# Altium footprint library PcbLib MP V1.PcbLib: 22 footprints (part 1 of 2)
Each footprint in its own frame and in the unit in brackets; x right, y up, seen from the top. Pads: shape width x height; smd on the part's side, far side on the other; paste and mask are expansions set on the pad; w line width, h text height; cw(c..) or ccw(c..) is an arc to the next point about the centre after c.
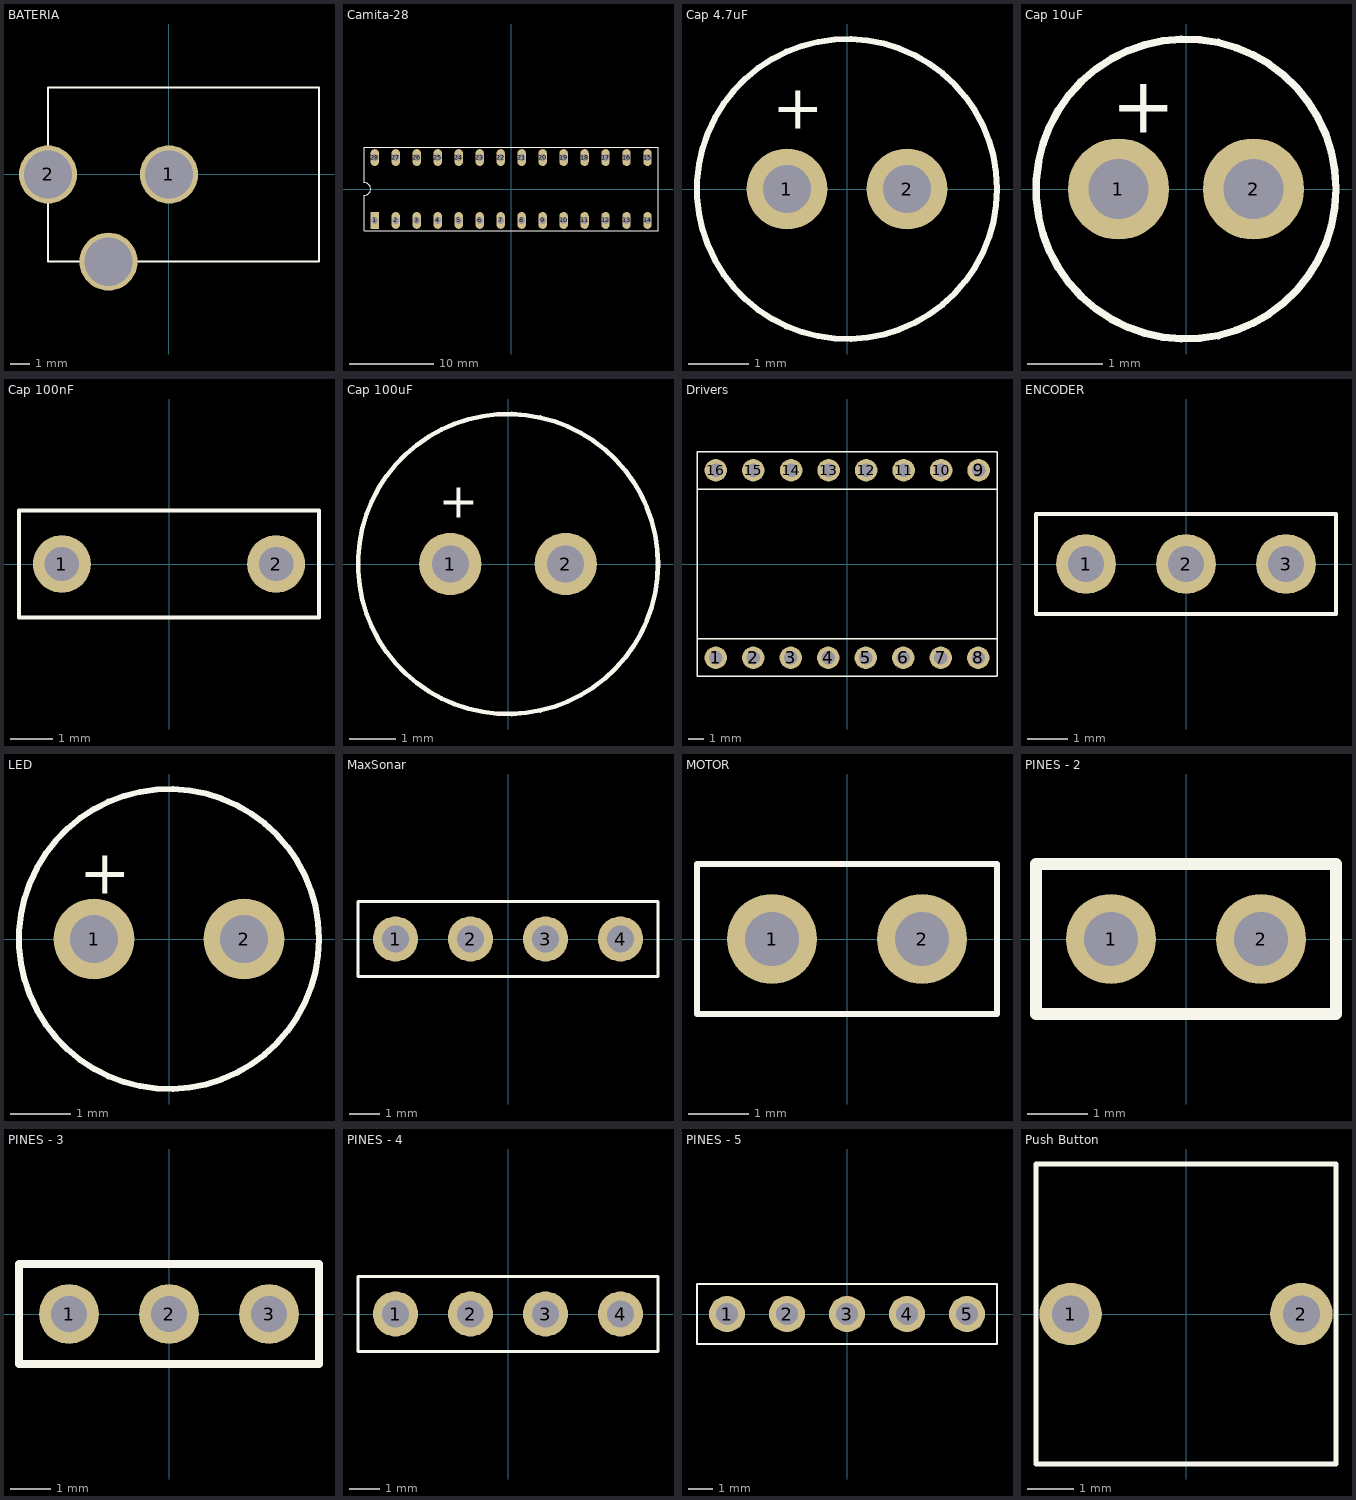
[diagram p0: the footprints below, top view; thin cyan lines are the x and y axes]

## BATERIA [mm]
pads (3):
  round 3 hole 2.5: 1(0,0) 2(-6.25,0) ""(-3.125,-4.5)
Top Overlay:
  lines w0.1: -6.25,-4.5 7.75,-4.5 7.75,4.5 -6.25,4.5 -6.25,-4.5
3D body: height 11, standoff 0, extent -6.377,-4.627 7.877,4.627

## Camita-28 [mm]
pads (28):
  rect 1x2 hole 0.8: 1(-16.25,-3.75)
  oval 1x2 hole 0.8: 2(-13.75,-3.75) 3(-11.25,-3.75) 4(-8.75,-3.75) 5(-6.25,-3.75) 6(-3.75,-3.75) 7(-1.25,-3.75) 8(1.25,-3.75) 9(3.75,-3.75) 10(6.25,-3.75) 11(8.75,-3.75) 12(11.25,-3.75) 13(13.75,-3.75) 14(16.25,-3.75) 15(16.25,3.75) 16(13.75,3.75) 17(11.25,3.75) 18(8.75,3.75) 19(6.25,3.75) 20(3.75,3.75) 21(1.25,3.75) 22(-1.25,3.75) 23(-3.75,3.75) 24(-6.25,3.75) 25(-8.75,3.75) 26(-11.25,3.75) 27(-13.75,3.75) 28(-16.25,3.75)
Top Overlay:
  lines w0.1: -17.5,-5 -17.5,-0.75 ccw(c-17.5,0) -17.5,0.75 -17.5,5 17.5,5 17.5,-5 -17.5,-5
3D body: height 5.5, standoff 0.25, extent -17.5,-5.001 17.501,5.001

## Cap 4.7uF [mm] "Capacitor Electrolítico 4.7uF - 50v"
pads (2):
  round 1.35 hole 0.8: 1(-1,0) 2(1,0)
Top Overlay:
  circle w0.1: c0,0 r2.5
  text "+" at -1.25,1 h0.75
3D body: height 12, standoff 0, extent -2.494,-2.498 2.5,2.499

## Cap 10uF [mm] "Capacitor Electrolítico 10uF - 25v"
pads (2):
  round 1.35 hole 0.8: 1(-0.9,0) 2(0.9,0)
Top Overlay:
  circle w0.1: c0,0 r2
  text "+" at -1,0.75 h0.75
3D body: height 8, standoff 0, extent -1.996,-1.999 2,1.999

## Cap 100nF [mm] "Capacitor Cerámico 100nF"
pads (2):
  round 1.35 hole 0.8: 1(-2.5,0) 2(2.5,0)
Top Overlay:
  lines w0.1: -3.5,-1.25 3.5,-1.25 3.5,1.25 -3.5,1.25 -3.5,-1.25
3D body: height 4.6, standoff 1.38, extent -2,-1.25 2,1.25

## Cap 100uF [mm] "Capacitor Electrolítico 100uF - 25v"
pads (2):
  round 1.35 hole 0.8: 1(-1.25,0) 2(1.25,0)
Top Overlay:
  circle w0.1: c0,0 r3.25
  text "+" at -1.5,1 h0.75
3D body: height 8, standoff 0, extent -3.246,-3.249 3.25,3.249

## Drivers [mm]
pads (16):
  round 1.5 hole 0.9: 1(-8.75,-6.25) 2(-6.25,-6.25) 3(-3.75,-6.25) 4(-1.25,-6.25) 5(1.25,-6.25) 6(3.75,-6.25) 7(6.25,-6.25) 8(8.75,-6.25) 9(8.775,6.25) 10(6.275,6.25) 11(3.775,6.25) 12(1.275,6.25) 13(-1.225,6.25) 14(-3.725,6.25) 15(-6.25,6.25) 16(-8.75,6.25)
Top Overlay:
  lines w0.1: -10,-5 10,-5 ; -10,5 10,5 ; -10,-7.5 -10,7.5 10,7.5 10,-7.5 -10,-7.5
3D body: height 11, standoff 0, extent -9.999,-7.499 9.999,-5.001
3D body: height 11, standoff 0, extent -9.999,5.001 9.999,7.499
3D body: height 14, standoff 11, extent -10.1,-7.6 10.1,7.6

## ENCODER [mm]
pads (3):
  round 1.5 hole 0.9: 1(-2.5,0) 2(0,0) 3(2.5,0)
Top Overlay:
  lines w0.1: -3.75,-1.25 -3.75,1.25 3.75,1.25 3.75,-1.25 -3.75,-1.25
3D body: height 16.4, standoff 0, extent -3.75,-1.25 3.75,1.25

## LED [mm] "Standar Led"
pads (2):
  round 1.35 hole 0.8: 1(-1.25,0) 2(1.25,0)
Top Overlay:
  circle w0.1: c0,0 r2.5
  text "+" at -1.5,0.75 h0.75
3D body: height 9, standoff 4, extent -2.5,-2.499 2.495,2.5
3D body: height 6.5, standoff 0, extent -2.497,-2.499 2.5,2.499

## MaxSonar [mm] "Ultrasónico MaxSonar"
pads (4):
  round 1.5 hole 0.9: 1(-3.75,0) 2(-1.25,0) 3(1.25,0) 4(3.75,0)
Top Overlay:
  lines w0.1: -5,-1.25 -5,1.25 5,1.25 5,-1.25 -5,-1.25
3D body: height 11, standoff 0, extent -4.999,-1.249 4.999,1.249

## MOTOR [mm]
pads (2):
  round 1.5 hole 0.9: 1(-1.25,0) 2(1.25,0)
Top Overlay:
  lines w0.1: -2.5,-1.25 -2.5,1.25 2.5,1.25 2.5,-1.25 -2.5,-1.25
3D body: height 11, standoff 0, extent -2.499,-1.249 2.499,1.249

## PINES - 2 [mm]
pads (2):
  round 1.5 hole 0.9: 1(-1.25,0) 2(1.25,0)
Top Overlay:
  lines w0.2: -2.5,-1.25 2.5,-1.25 2.5,1.25 -2.5,1.25 -2.5,-1.25
3D body: height 8.5, standoff 0, extent -2.499,-1.249 2.499,1.249

## PINES - 3 [mm]
pads (3):
  round 1.5 hole 0.9: 1(-2.5,0) 2(0,0) 3(2.5,0)
Top Overlay:
  lines w0.2: -3.75,-1.25 3.75,-1.25 3.75,1.25 -3.75,1.25 -3.75,-1.25
3D body: height 8.5, standoff 0, extent -3.749,-1.249 3.749,1.249

## PINES - 4 [mm]
pads (4):
  round 1.5 hole 0.9: 1(-3.75,0) 2(-1.25,0) 3(1.25,0) 4(3.75,0)
Top Overlay:
  lines w0.1: -5,-1.25 5,-1.25 5,1.25 -5,1.25 -5,-1.25
3D body: height 8, standoff 0, extent -4.999,-1.249 4.999,1.249

## PINES - 5 [mm]
pads (5):
  round 1.5 hole 0.9: 1(-5,0) 2(-2.5,0) 3(0,0) 4(2.5,0) 5(5,0)
Top Overlay:
  lines w0.1: -6.25,-1.25 6.25,-1.25 6.25,1.25 -6.25,1.25 -6.25,-1.25
3D body: height 8, standoff 0, extent -6.249,-1.249 6.25,1.249

## Push Button [mm]
pads (2):
  round 1.35 hole 0.8: 1(-2.5,0) 2(2.5,0)
Top Overlay:
  lines w0.1: -3.25,-3.25 3.25,-3.25 3.25,3.25 -3.25,3.25 -3.25,-3.25
3D body: height 4.5, standoff 0, extent -3.25,-3.25 3.25,3.25